# Altium schematic symbol library STM32主板.SchLib: 2 symbols
Pins are listed as number, name and electrical type; pins without a type are passive.

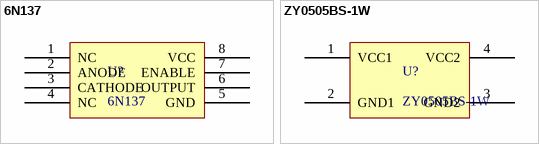
[diagram p0: symbols 6N137 to ZY0505BS-1W]

## 6N137
designator U?
pins: 1 NC, 2 ANODE, 3 CATHODE, 4 NC, 5 GND, 6 OUTPUT, 7 ENABLE, 8 VCC

## ZY0505BS-1W
designator U?
pins: 1 VCC1, 2 GND1, 3 GND2, 4 VCC2